# Altium schematic symbol library NFC_Antenna.SchLib: 1 symbol
Pins are listed as number, name and electrical type; pins without a type are passive.

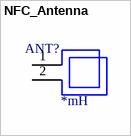
[diagram p0: symbol NFC_Antenna]

## NFC_Antenna
designator ANT?  value *mH  (hidden comment: NFC_Antenna)
footprint PCBComponent_1
pins: 1, 2